# Altium schematic symbol library R_C.SchLib: 40 symbols
Pins are listed as number, name and electrical type; pins without a type are passive.

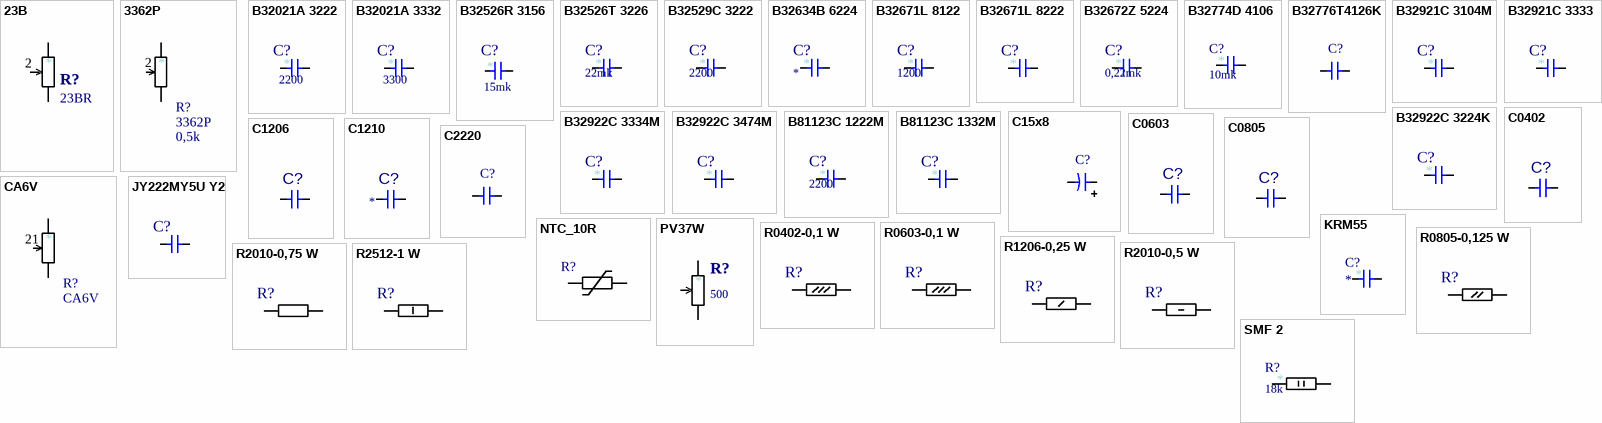
[diagram p0: symbols 23B to SMF 2]

## 23B
designator R?, comment 23BR
TitAD: Резистор; Stype: R
footprint 23B
pins: 1, 2, 3
1 alternate drawing of the same symbol

## 3362P
designator R?  value 0,5k
TitAD: Резистор; Supplier 1: Digi-Key; Supplier Part Number 1: 3362P-103LF-ND
footprint 3362P
pins: 1, 2, 3
1 alternate drawing of the same symbol

## B32021A 3222
designator C?  value 2200  (hidden comment: B32021A 3222)
TitAD: Конденсатор; Addit: 300 B AC класс Y2
footprint B32021A 3222
pins: 1, 2

## B32021A 3332
designator C?  value 3300  (hidden comment: B32021A 3332)
TitAD: Конденсатор; Addit: 300 B AC класс Y2
footprint B32021A 3332
pins: 1, 2

## B32526R 3156
designator C?  value 15mk  (hidden comment: B32526R 3156)
TitAD: Конденсатор; Addit: 250B DC 160B AC
footprint B32526R 3156
pins: 1, 2

## B32526T 3226
designator C?  value 22mk  (hidden comment: B32526T 3226)
TitAD: Конденсатор; Addit: 250B DC 160B AC; V: *
footprint B32526T 3226
pins: 1, 2

## B32529C 3222
designator C?  value 2200  (hidden comment: B32529C 3222)
TitAD: Конденсатор; Addit: 250B DC 160B AC; V: *
footprint B32529C 3222
pins: 1, 2

## B32634B 6224
designator C?  (value not drawn)
TitAD: Конденсатор; V: *; Addit: *; Value: *
footprint B32634B 6224
pins: 1, 2

## B32671L 8122
designator C?  value 1200  (hidden comment: B32671L 8122)
TitAD: Конденсатор; Addit: 2000B DC 700B AC; V: *
footprint B32671L 8122
pins: 1, 2

## B32671L 8222
designator C?  (value not drawn)
TitAD: Конденсатор; Value: 2200; Addit: 2000B DC 700B AC
footprint B32671L 8222
pins: 1, 2

## B32672Z 5224
designator C?  value 0,22mk  (hidden comment: B32672Z 5224)
TitAD: Конденсатор; Addit: 277 B AC 520 B DC; V: *
footprint B32634B 6224
pins: 1, 2

## B32774D 4106
designator C?  value 10mk  (hidden comment: B32774D 4106)
TitAD: Конденсатор; Addit: 450B DC; V: *
footprint B32774D 4106
pins: 1, 2

## B32776T4126K
designator C?  (value not drawn)
TitAD: Конденсатор
footprint B32776T4126K
pins: 1, 2

## B32921C 3104M
designator C?  (value not drawn)
TitAD: Конденсатор; Value: 0,1mk; Addit: 305B AC; V: *
footprint B32921C 3104M
pins: 1, 2

## B32921C 3333
designator C?  (value not drawn)
TitAD: Конденсатор; Value: 0,033mk; Addit: 305B AC; V: *
footprint B32921C 3333
pins: 1, 2

## B32922C 3224K
designator C?  (value not drawn)
TitAD: Конденсатор; Value: 0,22mk; Addit: 305B AC; V: *
footprint B32922 C3224
pins: 1, 2

## B32922C 3334M
designator C?  (value not drawn)
TitAD: Конденсатор; V: 630B; Value: 0,33mk; Addit: 630B DC 305B AC
footprint B32922C 3334M
pins: 1, 2

## B32922C 3474M
designator C?  (value not drawn)
TitAD: Конденсатор; Value: 0,47mk; Addit: 305B AC; V: *
footprint B32922C 3474
pins: 1, 2

## B81123C 1222M
designator C?  value 2200  (hidden comment: B81123C 1222M)
TitAD: Конденсатор; Addit: 3000B DC250B AC класс Y1
footprint B81123C 1222M
pins: 1, 2

## B81123C 1332M
designator C?  (value not drawn)
TitAD: Конденсатор; Value: 3300; Addit: 250B AC
footprint B81123C 1332M
pins: 1, 2

## C15x8
designator C?  (value not drawn)
TitAD: Конденсатор
pins: 1, 2

## C0402
designator C?  (value not drawn)
Tolerance: ISHIDDEN=T; TitAD: Конденсатор
footprint C0402
pins: 1, 2

## C0603
designator C?
TitAD: Конденсатор
footprint C0603
pins: 1, 2

## C0805
designator C?  (value not drawn)
TitAD: Конденсатор
footprint C0805
pins: 1, 2

## C1206
designator C?  (value not drawn)
TitAD: Конденсатор
footprint C1206
pins: 1, 2

## C1210
designator C?
TitAD: Конденсатор
footprint C1210
pins: 1, 2

## C2220
designator C?  (value not drawn)
TitAD: Конденсатор
footprint C2220
pins: 1, 2

## CA6V
designator R?
TitAD: Резистор
footprint CA6V
pins: 1, 2, 3
1 alternate drawing of the same symbol

## JY222MY5U Y2
designator C?  (value not drawn)
TitAD: Конденсатор; C: *; V: *; Value: *
footprint JY222MY5U_Y2
pins: 1, 2

## KRM55
designator C?
TitAD: Конденсатор; SType: *; Value: *; Note: *; Addit: *
footprint KRM55
pins: 1, 2

## NTC_10R
designator R?  (value not drawn)
Value: 2,5; TitAD: Терморезистор; Addit: 5,2 A; Note: EPCOS B57235S0259M0; R: 2,5
footprint NTC10R
pins: 1, 2

## PV37W
designator R?  value 500  (hidden comment: PV37W)
TitAD: Резистор; Supplier 1: Digi-Key; Supplier Part Number 1: 490-2983-ND
footprint PV37W
pins: 1, 2, 3
1 alternate drawing of the same symbol

## R0402-0,1 W
designator R?  (value not drawn)
TitAD: Резистор
footprint R0402
pins: 1, 2

## R0603-0,1 W
designator R?  (value not drawn)
TitAD: Резистор; Power/Voltage: 0,1 W; Rem: *; Корпус: *; Manufacturer: *; ManufacturerPartNumber: *; TKE: *
footprint R0603
pins: 1, 2

## R0805-0,125 W
designator R?  (value not drawn)
TitAD: Резистор
footprint R0805
pins: 1, 2

## R1206-0,25 W
designator R?  (value not drawn)
TitAD: Резистор
footprint R1206
pins: 1, 2

## R2010-0,5 W
designator R?  (value not drawn)
TitAD: Резистор
footprint R2010
pins: 1, 2

## R2010-0,75 W
designator R?  (value not drawn)
TitAD: Резистор
footprint R2010
pins: 1, 2

## R2512-1 W
designator R?  (value not drawn)
TitAD: Резистор
footprint R2512
pins: 1, 2

## SMF 2
designator R?, comment value 18k  (hidden comment: SMF-2)
TitAD: Резистор; SType: @18KJT 2W
footprint SM_2
pins: 1, 2